# Altium footprint library 封装.PcbLib: 14 footprints
Each footprint in its own frame and in the unit in brackets; x right, y up, seen from the top. Pads: shape width x height; smd on the part's side, far side on the other; paste and mask are expansions set on the pad; w line width, h text height; cw(c..) or ccw(c..) is an arc to the next point about the centre after c.
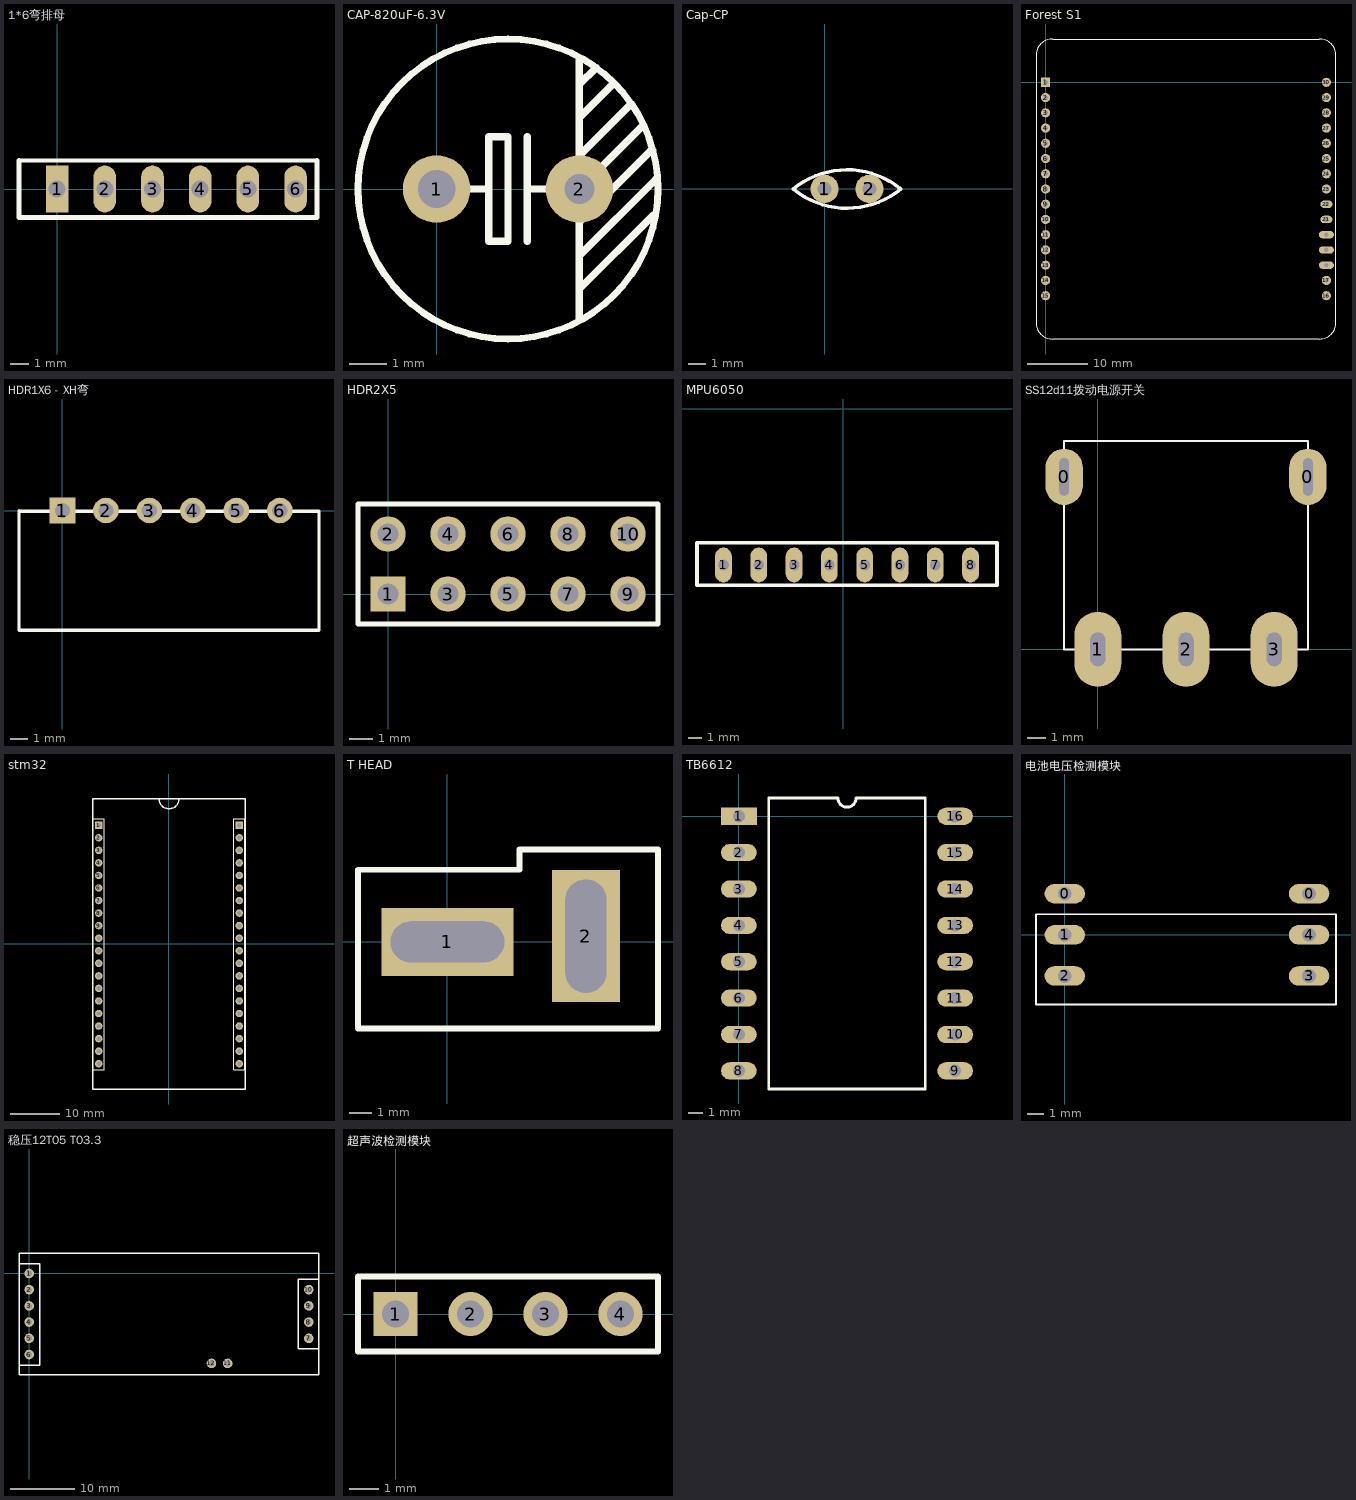
[diagram p0: the footprints below, top view; thin cyan lines are the x and y axes]

## 1*6弯排母 [mm] "Connector; Header; 4 Position"
height 6
pads (6):
  rect 1.2x2.5 hole 0.9: 1(0,0)
  oval 1.2x2.5 hole 0.9: 2(2.54,0) 3(5.08,0) 4(7.62,0) 5(10.16,0) 6(12.7,0)
Top Overlay:
  lines w0.2: -2.032,1.524 13.843,1.524
  lines w0.254: -2.032,1.524 -2.032,-1.524 13.843,-1.524 13.843,1.524

## CAP-820uF-6.3V [mm] "Φ8*11.5直插式电解电容"
height 11.5
pads (2):
  round 1.8 hole 1: 1(0,0)
  round 1.8 hole 0.8: 2(3.81,0)
Top Overlay:
  circle w0.18: c1.905,0 r4
  lines w0.2: 0.889,0 1.397,0 ; 2.413,-1.397 2.413,1.397 ; 2.413,0 2.921,0 ; 3.81,-3.429 3.81,3.429 ; 3.81,-2.667 5.779,-0.699 ; 3.81,-1.778 5.842,0.254 ; 3.81,-0.889 5.715,1.016 ; 3.81,0.889 5.143,2.222 ; 3.81,1.905 4.699,2.794 ; 3.81,2.794 4.255,3.238 ; 3.873,0.064 5.461,1.651 ; 1.397,-1.397 1.397,1.397 1.905,1.397 1.905,-1.397 1.397,-1.397

## Cap-CP [mm] "直插型小瓷片电容"
height 4.32
pads (2):
  round 1.6 hole 0.8: 1(0,0) 2(2.54,0)
Top Overlay:
  lines w0.2: -1.776,-0.009 cw(c1.27,-3.718) 4.277,0.023 ; -1.733,-0.045 ccw(c1.27,3.7) 4.317,-0.009

## Forest S1 [mil]
pads (30):
  rect 60x60 hole 30: 1(0,0)
  round 60 hole 30: 2(0,-100) 3(0,-200) 4(0,-300) 5(0,-400) 6(0,-500) 7(0,-600) 8(0,-700) 9(0,-800) 10(0,-900) 11(0,-1000) 12(0,-1100) 13(0,-1200) 14(0,-1300) 15(0,-1400) 16(1842.52,-1400) 17(1842.52,-1300) 23(1842.52,-700) 24(1842.52,-600) 25(1842.52,-500) 26(1842.52,-400) 27(1842.52,-300) 28(1842.52,-200) 29(1842.52,-100) 30(1842.52,0)
  oval 98.43x47.24 hole 30: 18(1842.52,-1200) 19(1842.52,-1100) 20(1842.52,-1000)
  oval 78.74x49.21 hole 30: 21(1842.52,-900) 22(1842.52,-800)
Top Overlay:
  lines w3.94: -62.99,-1574.02 ccw(c47.24,-1574.02) 47.24,-1684.25 1795.28,-1684.25 ccw(c1795.28,-1574.02) 1905.51,-1574.02 1905.51,174.02 ccw(c1795.28,174.02) 1795.28,284.25 47.24,284.25 ccw(c47.24,174.02) -62.99,174.02 -62.99,-1574.02

## HDR1X6 - XH弯 [mm] "Connector; Header; 4 Position"
height 6
pads (6):
  rect 1.5x1.5 hole 0.9: 1(0,0)
  round 1.5 hole 0.9: 2(2.54,0) 3(5.08,0) 4(7.62,0) 5(10.16,0) 6(12.7,0)
Top Overlay:
  lines w0.2: -2.54,-0.032 14.986,-0.032 14.986,-7 -2.54,-7 -2.54,0

## HDR2X5 [mm] "Connector; Header; 5x2 Position"
height 4.32
pads (10):
  rect 1.5x1.5 hole 0.9: 1(0,0)
  round 1.5 hole 0.9: 2(0,2.54) 3(2.54,0) 4(2.54,2.54) 5(5.08,0) 6(5.08,2.54) 7(7.62,0) 8(7.62,2.54) 9(10.16,0) 10(10.16,2.54)
Top Overlay:
  lines w0.2: -1.27,-1.27 11.43,-1.27 11.43,3.81 -1.27,3.81 -1.27,-1.27

## MPU6050 [mm]
height 4.32
pads (8):
  oval 1.2x2.5 hole 0.762: 1(-8.636,-11.246) 2(-6.096,-11.246) 3(-3.556,-11.246) 4(-1.016,-11.246)
  oval 1.2x2.5 hole 0.76: 5(1.524,-11.246) 6(4.064,-11.246) 7(6.604,-11.246) 8(9.144,-11.246)
Top Overlay:
  lines w0.254: -10.541,-12.7 11.049,-12.7 11.049,-9.652 -9.271,-9.652 -10.541,-9.652 -10.541,-10.922 -10.541,-12.7

## SS12d11拨动电源开关 [mm]
height 4.32
pads (5):
  oval 2x3 hole 0.5 slot 2 at 90 deg: 0(-1.8,9.2) 0(11.2,9.2)
  oval 2.5x4 hole 0.8 slot 1.8 at 90 deg: 1(0,0) 2(4.7,0) 3(9.4,0)
Top Overlay:
  lines w0.1: -1.8,0 -1.8,11.1 11.2,11.1 11.2,0 -1.8,0

## stm32 [mm]
pads (40):
  rect 1.5x1.5 hole 0.9: 1(-14.224,24.021) 40(14.224,24.021)
  round 1.5 hole 0.9: 2(-14.224,21.481) 3(-14.224,18.941) 4(-14.224,16.401) 5(-14.224,13.861) 6(-14.224,11.321) 7(-14.224,8.781) 8(-14.224,6.241) 9(-14.224,3.701) 10(-14.224,1.161) 11(-14.224,-1.379) 12(-14.224,-3.919) 13(-14.224,-6.459) 14(-14.224,-8.999) 15(-14.224,-11.539) 16(-14.224,-14.079) 17(-14.224,-16.619) 18(-14.224,-19.159) 19(-14.224,-21.699) 20(-14.224,-24.239) 21(14.224,-24.239) 22(14.224,-21.699) 23(14.224,-19.159) 24(14.224,-16.619) 25(14.224,-14.079) 26(14.224,-11.539) 27(14.224,-8.999) 28(14.224,-6.459) 29(14.224,-3.919) 30(14.224,-1.379) 31(14.224,1.161) 32(14.224,3.701) 33(14.224,6.241) 34(14.224,8.781) 35(14.224,11.321) 36(14.224,13.861) 37(14.224,16.401) 38(14.224,18.941) 39(14.224,21.481)
Top Overlay:
  lines w0.2: -15.367,-25.509 -15.367,25.291 -13.081,25.291 -13.081,23.513 -13.081,-25.509 -15.367,-25.509 ; 13.081,-25.509 13.081,25.291 15.367,25.291 15.367,23.513 15.367,-25.509 13.081,-25.509
  lines w0.254: -2,29.333 ccw(c0,29.355) 2,29.333 ; -15.385,-29.355 15.385,-29.355 15.385,29.355 -15.385,29.355 -15.385,-29.355
3D body "Female-Header-2.54-Single-20.stp": height 2.74, standoff -8.96, extent 12.954,-25.632 15.454,25.418
3D body "Female-Header-2.54-Single-20.stp": height 2.74, standoff -8.96, extent -15.494,-25.632 -12.994,25.418

## T HEAD [mm]
height 4.32
pads (2):
  rect 5.8x3 hole 1.8 slot 5 at 0 deg: 1(0,0)
  rect 3x5.8 hole 1.8 slot 5 at 90 deg: 2(6.096,0.254)
Top Overlay:
  lines w0.254: -3.937,-3.81 -3.937,3.175 3.175,3.175 3.175,4.064 9.271,4.064 9.271,-3.81 3.175,-3.81 -3.937,-3.81

## TB6612 [mm]
height 4.32
pads (16):
  rect 2.5x1.2 hole 0.85: 1(0,0)
  oval 2.5x1.2 hole 0.85: 2(0,-2.54) 3(0,-5.08) 4(0,-7.62) 5(0,-10.16) 6(0,-12.7) 7(0,-15.24) 8(0,-17.78) 9(15.1,-17.78) 10(15.1,-15.24) 11(15.1,-12.7) 12(15.1,-10.16) 13(15.1,-7.62) 14(15.1,-5.08) 15(15.1,-2.54) 16(15.1,0)
Top Overlay:
  lines w0.2: 2.085,-19.05 13.015,-19.05 13.015,1.27 8.185,1.27 cw(c7.55,1.27) 6.915,1.27 2.085,1.27 2.085,-19.05

## 电池电压检测模块 [mm]
pads (6):
  oval 2.5x1.2 hole 0.85: 0(0,2.54) 0(15.1,2.54) 1(0,0) 2(0,-2.54) 3(15.1,-2.54) 4(15.1,0)
Top Overlay:
  lines w0.1: -1.778,-4.307 16.764,-4.307 16.764,1.27 -1.778,1.27 -1.778,-4.307

## 稳压12T05 T03.3 [mm]
pads (12):
  round 1.5 hole 0.9: 1(0,0) 2(0,-2.54) 3(0,-5.08) 4(0,-7.62) 5(0,-10.16) 6(0,-12.7) 7(43.8,-10.16) 8(43.8,-7.62) 9(43.8,-5.08) 10(43.8,-2.54) 11(31.091,-14.089) 12(28.551,-14.089)
Top Overlay:
  lines w0.2: -1.6,1.524 1.651,1.524 1.651,-14.351 -1.524,-14.351 ; 45.339,-0.889 42.164,-0.889 42.164,-11.811 45.4,-11.811 ; -1.6,-15.85 45.4,-15.85 45.4,3.15 -1.6,3.15 -1.6,-15.85

## 超声波检测模块 [mm] "Connector; Header; 4 Position"
height 4.32
pads (4):
  rect 1.5x1.5 hole 0.9: 1(0,0)
  round 1.5 hole 0.9: 2(2.54,0) 3(5.08,0) 4(7.62,0)
Top Overlay:
  lines w0.2: -1.27,-1.27 -1.27,1.27 8.89,1.27 8.89,-1.27 -1.27,-1.27